# EAGLE library part MCP9808_THERMOMETER (library DMF-AS3935_Project)
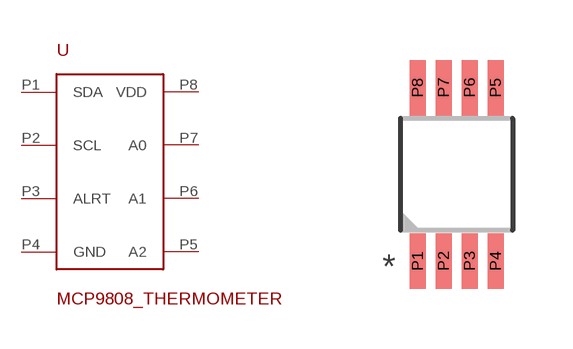
[diagram p2: symbol with the pads of MCP9808_MSOP; footprint MCP9808_MSOP]

Designator prefix U

## MCP9808_THERMOMETER  [MCP9808_MSOP]
P1  SDA
P2  SCL
P3  ALRT
P4  GND
P5  A2
P6  A1
P7  A0
P8  VDD

## Footprint MCP9808_MSOP (pad centres in mm)
smd 0.4 x 1.39: P1 -0.975,-2.17; P2 -0.325,-2.17; P3 0.325,-2.17; P4 0.975,-2.17; P5 0.975,2.17; P6 0.325,2.17; P7 -0.325,2.17; P8 -0.975,2.17